# Altium footprint library A3910EEETR-T.PcbLib: 3 footprints
Each footprint in its own frame and in the unit in brackets; x right, y up, seen from the top. Pads: shape width x height; smd on the part's side, far side on the other; paste and mask are expansions set on the pad; w line width, h text height; cw(c..) or ccw(c..) is an arc to the next point about the centre after c.
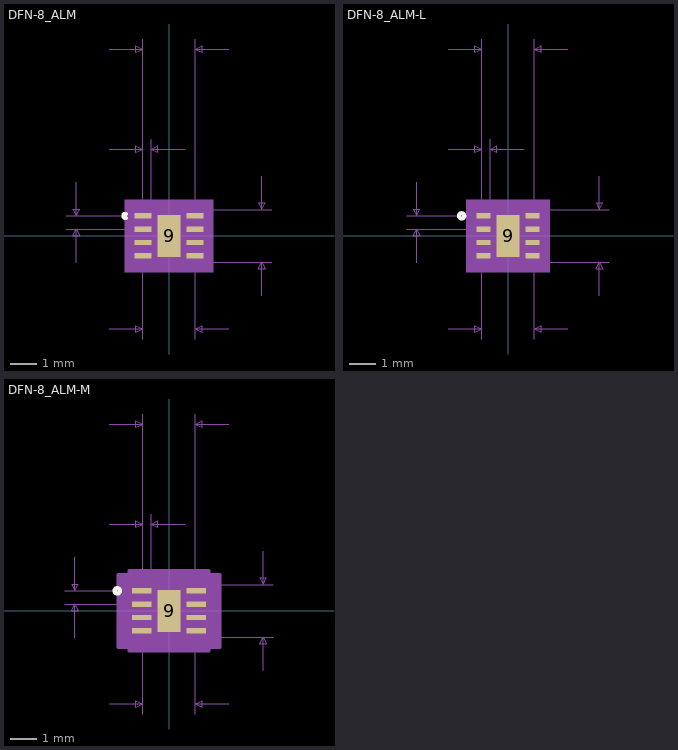
[diagram p0: the footprints below, top view; thin cyan lines are the x and y axes]

## DFN-8_ALM [mil]
pads (9):
  rect 25x8 smd paste+0 mask+0: 1(-39,30) 2(-39,10) 3(-39,-10) 4(-39,-30) 5(39,-30) 6(39,-10) 7(39,10) 8(39,30)
  rect 35x63 smd paste+0 mask+0: 9(0,0)
Top Overlay:
  lines w6: -64.6,27.14 cw(c-65.5,30) -64.6,32.86
Mechanical 5:
  region: 66.5,-54.5 -66.5,-54.5 -66.5,54.5 66.5,54.5
Mechanical 7:
  lines w1: -154,10 -39,10 ; -154,30 -39,30 ; -139,-40 -139,10 ; -139,80 -139,30 ; -89.5,-139.5 -39.5,-139.5 ; -89.5,130 -39.5,130 ; -89.5,280 -39.5,280 ; -39.5,-154.5 -39.5,-39.5 ; -39.5,145 -39.5,30 -39.5,295 ; -26.5,30 -26.5,145 ; 23.5,130 -26.5,130 ; 39.5,-154.5 39.5,-39.5 154,-39.5 ; 39.5,30 39.5,295 ; 39.5,39.5 154,39.5 ; 89.5,-139.5 39.5,-139.5 ; 89.5,280 39.5,280 ; 139,-89.5 139,-39.5 ; 139,89.5 139,39.5 ; -139,10 -144,0 -134,0 -139,10 ; -139,30 -144,40 -134,40 -139,30 ; -39.5,-139.5 -49.5,-134.5 -49.5,-144.5 -39.5,-139.5 ; -39.5,130 -49.5,135 -49.5,125 -39.5,130 ; -39.5,280 -49.5,285 -49.5,275 -39.5,280 ; -26.5,130 -16.5,135 -16.5,125 -26.5,130 ; 39.5,-139.5 49.5,-134.5 49.5,-144.5 39.5,-139.5 ; 39.5,280 49.5,285 49.5,275 39.5,280 ; 139,-39.5 134,-49.5 144,-49.5 139,-39.5 ; 139,39.5 134,49.5 144,49.5 139,39.5
  text "Default Padstyle: RX25Y8D0T" at -337.5,-409.5 h50
  text "Heat Tab Padstyle: RX35Y63D0T" at -362.5,-469.5 h50
  text "Alt 1 Padstyle: OX60Y90D30P" at -337.5,-589.5 h50
  text "Alt 2 Padstyle: OX90Y60D30P" at -337.5,-649.5 h50
  text "0.079in/2.007mm" at -93.75,300 h25
  text "0.013in/0.33mm" at -120.5,150 h25
  text "0.02in/0.508mm" at -334,7.5 h25
  text "0.079in/2.007mm" at 159,-12.5 h25
  text "0.079in/2.007mm" at -93.75,-184.5 h25
Mechanical 13:
  lines w0: -12,39.5 ccw(c0,39.5) 12,39.5
  lines w1: -39.5,-39.5 39.5,-39.5 39.5,39.5 -39.5,39.5 -39.5,-39.5
Mechanical 15:
  region: -49.5,-44 -61.5,-44 -61.5,44 -49.5,44 -49.5,49.5 49.5,49.5 49.5,44 61.5,44 61.5,-44 49.5,-44 49.5,-49.5 -49.5,-49.5
  lines w6: -61.5,-44 -61.5,44 -49.5,44 -49.5,49.5 49.5,49.5 49.5,44 61.5,44 61.5,-44 49.5,-44 49.5,-49.5 -49.5,-49.5 -49.5,-44 -61.5,-44
3D body: height 10, standoff 0, extent 0,0 10,10

## DFN-8_ALM-L [mil]
pads (9):
  rect 21x8 smd paste+0 mask+0: 1(-37,30) 2(-37,10) 3(-37,-10) 4(-37,-30) 5(37,-30) 6(37,-10) 7(37,10) 8(37,30)
  rect 35x63 smd paste+0 mask+0: 9(0,0)
Top Overlay:
  circle w6: c-69.5,30 r4
Mechanical 5:
  region: 62.5,-54.5 -62.5,-54.5 -62.5,54.5 62.5,54.5
Mechanical 7:
  lines w1: -152,10 -37,10 ; -152,30 -37,30 ; -137,-40 -137,10 ; -137,80 -137,30 ; -89.5,-139.5 -39.5,-139.5 ; -89.5,130 -39.5,130 ; -89.5,280 -39.5,280 ; -39.5,-154.5 -39.5,-39.5 ; -39.5,145 -39.5,30 -39.5,295 ; -26.5,30 -26.5,145 ; 23.5,130 -26.5,130 ; 39.5,-154.5 39.5,-39.5 152,-39.5 ; 39.5,30 39.5,295 ; 39.5,39.5 152,39.5 ; 89.5,-139.5 39.5,-139.5 ; 89.5,280 39.5,280 ; 137,-89.5 137,-39.5 ; 137,89.5 137,39.5 ; -137,10 -142,0 -132,0 -137,10 ; -137,30 -142,40 -132,40 -137,30 ; -39.5,-139.5 -49.5,-134.5 -49.5,-144.5 -39.5,-139.5 ; -39.5,130 -49.5,135 -49.5,125 -39.5,130 ; -39.5,280 -49.5,285 -49.5,275 -39.5,280 ; -26.5,130 -16.5,135 -16.5,125 -26.5,130 ; 39.5,-139.5 49.5,-134.5 49.5,-144.5 39.5,-139.5 ; 39.5,280 49.5,285 49.5,275 39.5,280 ; 137,-39.5 132,-49.5 142,-49.5 137,-39.5 ; 137,39.5 132,49.5 142,49.5 137,39.5
  text "Default Padstyle: RX21Y8D0T" at -337.5,-409.5 h50
  text "Heat Tab Padstyle: RX35Y63D0T" at -362.5,-469.5 h50
  text "Alt 1 Padstyle: OX60Y90D30P" at -337.5,-589.5 h50
  text "Alt 2 Padstyle: OX90Y60D30P" at -337.5,-649.5 h50
  text "0.079in/2.007mm" at -93.75,300 h25
  text "0.013in/0.33mm" at -120.5,150 h25
  text "0.02in/0.508mm" at -332,7.5 h25
  text "0.079in/2.007mm" at 157,-12.5 h25
  text "0.079in/2.007mm" at -93.75,-184.5 h25
Mechanical 13:
  circle w0: c-26.5,30 r3
  lines w0: -12,39.5 ccw(c0,39.5) 12,39.5
  lines w1: -39.5,-39.5 39.5,-39.5 39.5,39.5 -39.5,39.5 -39.5,-39.5
Mechanical 15:
  region: -43.5,-38 -51.5,-38 -51.5,38 -43.5,38 -43.5,43.5 43.5,43.5 43.5,38 51.5,38 51.5,-38 43.5,-38 43.5,-43.5 -43.5,-43.5
  lines w6: -51.5,-38 -51.5,38 -43.5,38 -43.5,43.5 43.5,43.5 43.5,38 51.5,38 51.5,-38 43.5,-38 43.5,-43.5 -43.5,-43.5 -43.5,-38 -51.5,-38
3D body: height 10, standoff 0, extent 0,0 10,10

## DFN-8_ALM-M [mil]
pads (9):
  rect 29x8 smd paste+0 mask+0: 1(-41,30) 2(-41,10) 3(-41,-10) 4(-41,-30) 5(41,-30) 6(41,-10) 7(41,10) 8(41,30)
  rect 35x63 smd paste+0 mask+0: 9(0,0)
Top Overlay:
  circle w6: c-77.5,30 r4
Mechanical 5:
  region: 70.5,-54.5 -70.5,-54.5 -70.5,54.5 70.5,54.5
Mechanical 7:
  lines w1: -156,10 -41,10 ; -156,30 -41,30 ; -141,-40 -141,10 ; -141,80 -141,30 ; -89.5,-139.5 -39.5,-139.5 ; -89.5,130 -39.5,130 ; -89.5,280 -39.5,280 ; -39.5,-154.5 -39.5,-39.5 ; -39.5,145 -39.5,30 -39.5,295 ; -26.5,30 -26.5,145 ; 23.5,130 -26.5,130 ; 39.5,-154.5 39.5,-39.5 156,-39.5 ; 39.5,30 39.5,295 ; 39.5,39.5 156,39.5 ; 89.5,-139.5 39.5,-139.5 ; 89.5,280 39.5,280 ; 141,-89.5 141,-39.5 ; 141,89.5 141,39.5 ; -141,10 -136,0 -146,0 -141,10 ; -141,30 -136,40 -146,40 -141,30 ; -39.5,-139.5 -49.5,-144.5 -49.5,-134.5 -39.5,-139.5 ; -39.5,130 -49.5,125 -49.5,135 -39.5,130 ; -39.5,280 -49.5,275 -49.5,285 -39.5,280 ; -26.5,130 -16.5,125 -16.5,135 -26.5,130 ; 39.5,-139.5 49.5,-144.5 49.5,-134.5 39.5,-139.5 ; 39.5,280 49.5,275 49.5,285 39.5,280 ; 141,-39.5 146,-49.5 136,-49.5 141,-39.5 ; 141,39.5 146,49.5 136,49.5 141,39.5
  text "0.079in/2.007mm" at -93.75,-184.5 h25
  text "0.079in/2.007mm" at 161,-12.5 h25
  text "0.02in/0.508mm" at -336,7.5 h25
  text "0.013in/0.33mm" at -120.5,150 h25
  text "0.079in/2.007mm" at -93.75,300 h25
  text "Alt 2 Padstyle: OX90Y60D30P" at -337.5,-649.5 h50
  text "Alt 1 Padstyle: OX60Y90D30P" at -337.5,-589.5 h50
  text "Heat Tab Padstyle: RX35Y63D0T" at -362.5,-469.5 h50
  text "Default Padstyle: RX29Y8D0T" at -337.5,-409.5 h50
Mechanical 13:
  circle w0: c-26.5,30 r3
  lines w0: -12,39.5 ccw(c0,39.5) 12,39.5
  lines w1: -39.5,-39.5 -39.5,39.5 39.5,39.5 39.5,-39.5 -39.5,-39.5
Mechanical 15:
  region: -59.5,-54 -75.5,-54 -75.5,54 -59.5,54 -59.5,59.5 59.5,59.5 59.5,54 75.5,54 75.5,-54 59.5,-54 59.5,-59.5 -59.5,-59.5
  lines w6: -75.5,-54 -59.5,-54 -59.5,-59.5 59.5,-59.5 59.5,-54 75.5,-54 75.5,54 59.5,54 59.5,59.5 -59.5,59.5 -59.5,54 -75.5,54 -75.5,-54
3D body: height 10, standoff 0, extent 0,0 10,10